# Altium footprint library Custom.PcbLib: 48 footprints (part 1 of 3)
Each footprint in its own frame and in the unit in brackets; x right, y up, seen from the top. Pads: shape width x height; smd on the part's side, far side on the other; paste and mask are expansions set on the pad; w line width, h text height; cw(c..) or ccw(c..) is an arc to the next point about the centre after c.
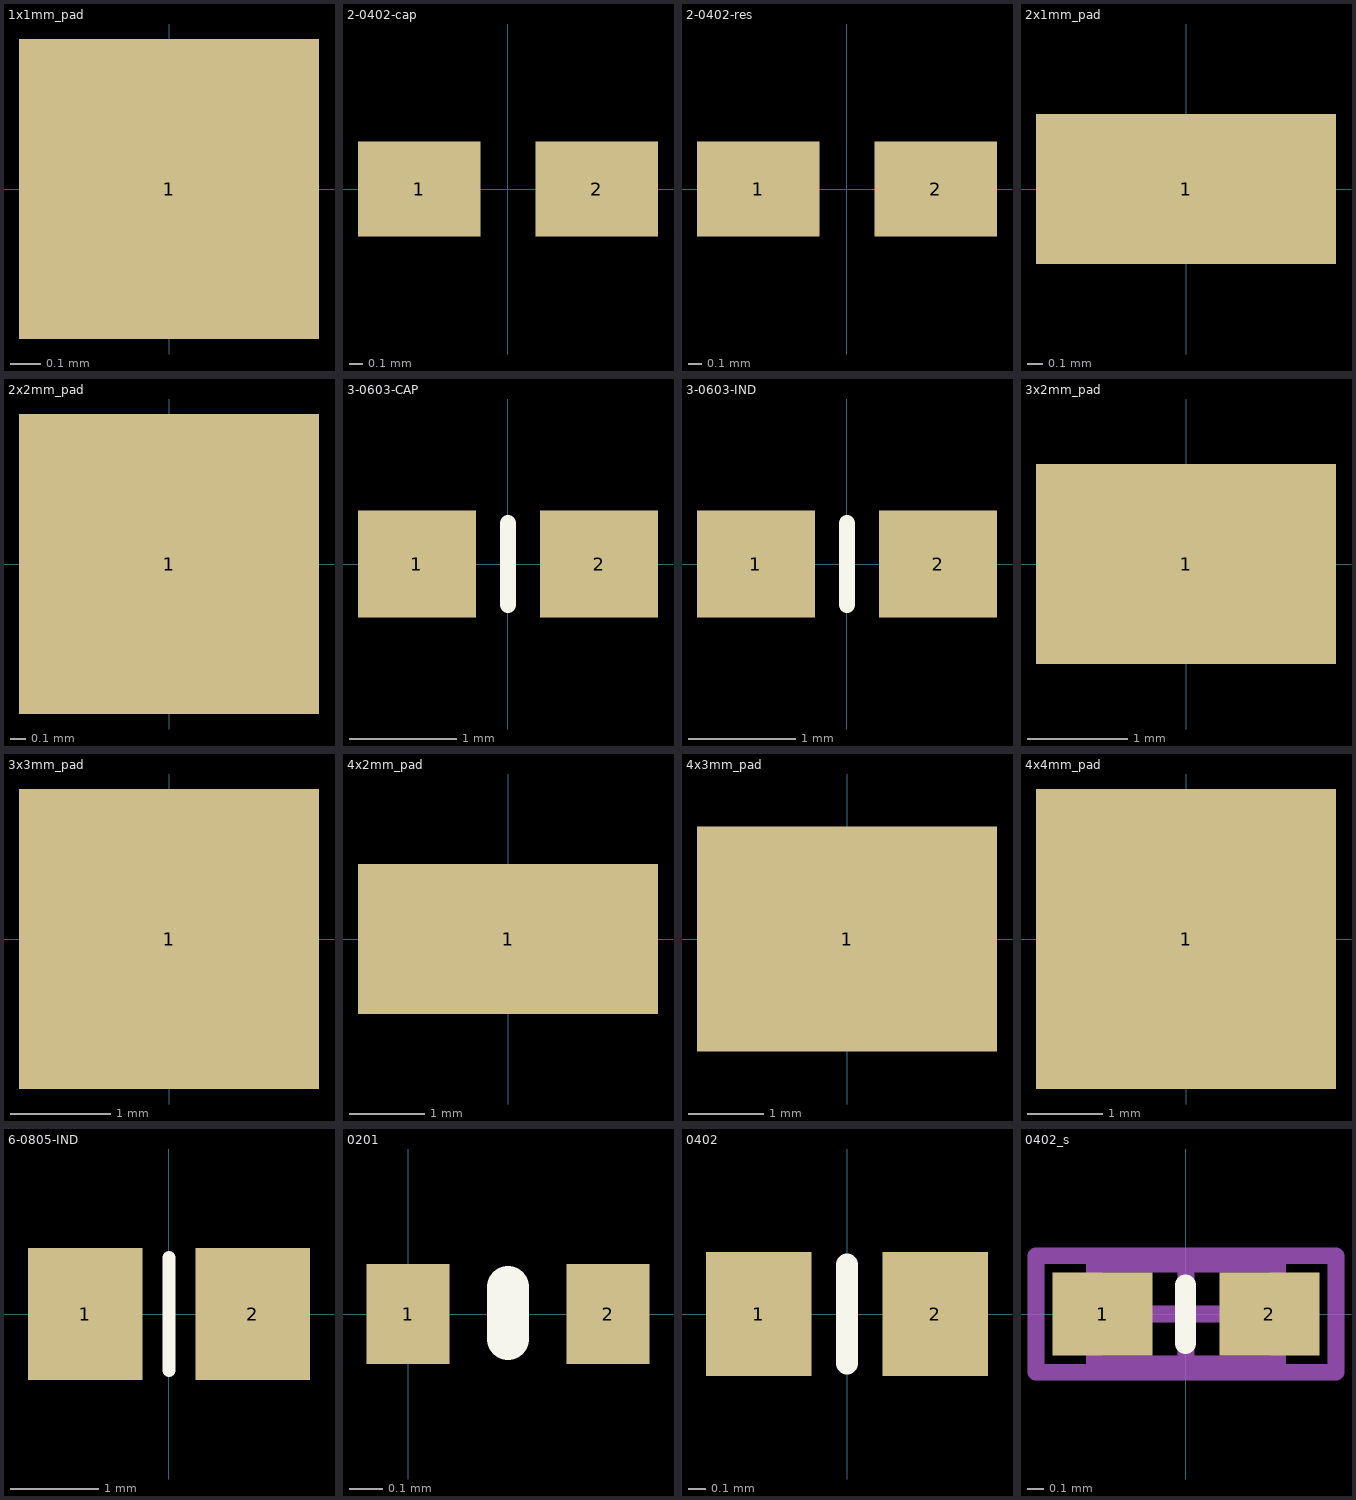
[diagram p0: the footprints below, top view; thin cyan lines are the x and y axes]

## 1x1mm_pad [mm]
pads (1):
  rect 1x1 smd: 1(0,0)

## 2-0402-cap [mm] "Chip Resistor; Body 1 x 0.5 mm (LxW typ)"
height 0.4
pads (2):
  rect 0.9x0.7 smd: 1(-0.65,0) 2(0.65,0)
3D body: height 0.8, standoff 0, extent -0.8,-0.43 0.8,0.43

## 2-0402-res [mm] "Chip Resistor; Body 1 x 0.5 mm (LxW typ)"
height 0.4
pads (2):
  rect 0.9x0.7 smd: 1(-0.65,0) 2(0.65,0)
3D body: height 0.3, standoff 0, extent 0.508,-0.381 0.762,0.381
3D body: height 0.3, standoff 0, extent -0.762,-0.381 -0.508,0.381
3D body: height 0.3, standoff 0, extent -0.508,-0.381 0.508,0.381

## 2x1mm_pad [mm]
pads (1):
  rect 2x1 smd: 1(0,0)

## 2x2mm_pad [mm]
pads (1):
  rect 2x2 smd: 1(0,0)

## 3-0603-CAP [mm] "Chip Resistor; Body 1.6 x 0.9 mm (LxW typ)"
height 0.55
pads (2):
  rect 1.1x1 smd: 1(-0.85,0) 2(0.85,0)
Top Overlay:
  lines w0.152: 0,-0.381 0,0.381
3D body: height 0.8, standoff 0, extent 0.635,-0.508 1.143,0.508
3D body: height 0.8, standoff 0, extent -1.143,-0.508 -0.635,0.508
3D body: height 0.8, standoff 0, extent -0.635,-0.508 0.635,0.508

## 3-0603-IND [mm] "Chip Resistor; Body 1.6 x 0.9 mm (LxW typ)"
height 0.55
pads (2):
  rect 1.1x1 smd: 1(-0.85,0) 2(0.85,0)
Top Overlay:
  lines w0.152: 0,-0.381 0,0.381
3D body: height 0.8, standoff 0, extent 0.635,-0.508 1.143,0.508
3D body: height 0.8, standoff 0, extent -1.143,-0.508 -0.635,0.508
3D body: height 0.8, standoff 0, extent -0.635,-0.508 0.635,0.508

## 3x2mm_pad [mm]
pads (1):
  rect 3x2 smd: 1(0,0)

## 3x3mm_pad [mm]
pads (1):
  rect 3x3 smd: 1(0,0)

## 4x2mm_pad [mm]
pads (1):
  rect 4x2 smd: 1(0,0)

## 4x3mm_pad [mm]
pads (1):
  rect 4x3 smd: 1(0,0)

## 4x4mm_pad [mm]
pads (1):
  rect 4x4 smd: 1(0,0)

## 6-0805-IND [mm] "Chip Resistor; Body 2 x 1.2 mm (LxW typ)"
height 0.7
pads (2):
  rect 1.3x1.5 smd: 1(-0.95,0) 2(0.95,0)
Top Overlay:
  lines w0.152: 0,-0.635 0,0.635
3D body: height 0.8, standoff 0, extent 0.762,-0.762 1.27,0.762
3D body: height 0.8, standoff 0, extent -1.27,-0.762 -0.762,0.762
3D body: height 0.8, standoff 0, extent -0.762,-0.762 0.762,0.762

## 0201 [mm]
pads (2):
  rect 0.25x0.3 smd mask+0.05: 1(0,0) 2(0.6,0)
Top Overlay:
  lines w0.127: 0.3,-0.075 0.3,0.081

## 0402 [mm] "Chip Resistor; Body 1 x 0.5 mm (LxW typ)"
height 0.4
pads (2):
  rect 0.6x0.7 smd: 1(-0.5,0) 2(0.5,0)
Top Overlay:
  lines w0.127: 0,-0.279 0,0.279

## 0402_s [mm]
pads (2):
  rect 0.6x0.5 smd: 1(-0.5,0) 2(0.5,0)
Top Overlay:
  lines w0.127: -0.002,-0.176 -0.002,0.174
Mechanical 13:
  lines w0.1: -0.55,-0.3 -0.55,0.3 0.55,0.3 0.55,-0.3 -0.55,-0.3
Mechanical 15:
  lines w0.1: -0.3,0 0.3,0 ; 0,-0.3 0,0.3 ; -0.9,-0.35 -0.9,0.35 0.9,0.35 0.9,-0.35 -0.9,-0.35
3D body: height 1.3, standoff 0, extent -0.55,-0.3 0.55,0.3